# Altium footprint library fuse.PcbLib: 36 footprints (part 2 of 3)
Each footprint in its own frame and in the unit in brackets; x right, y up, seen from the top. Pads: shape width x height; smd on the part's side, far side on the other; paste and mask are expansions set on the pad; w line width, h text height; cw(c..) or ccw(c..) is an arc to the next point about the centre after c.
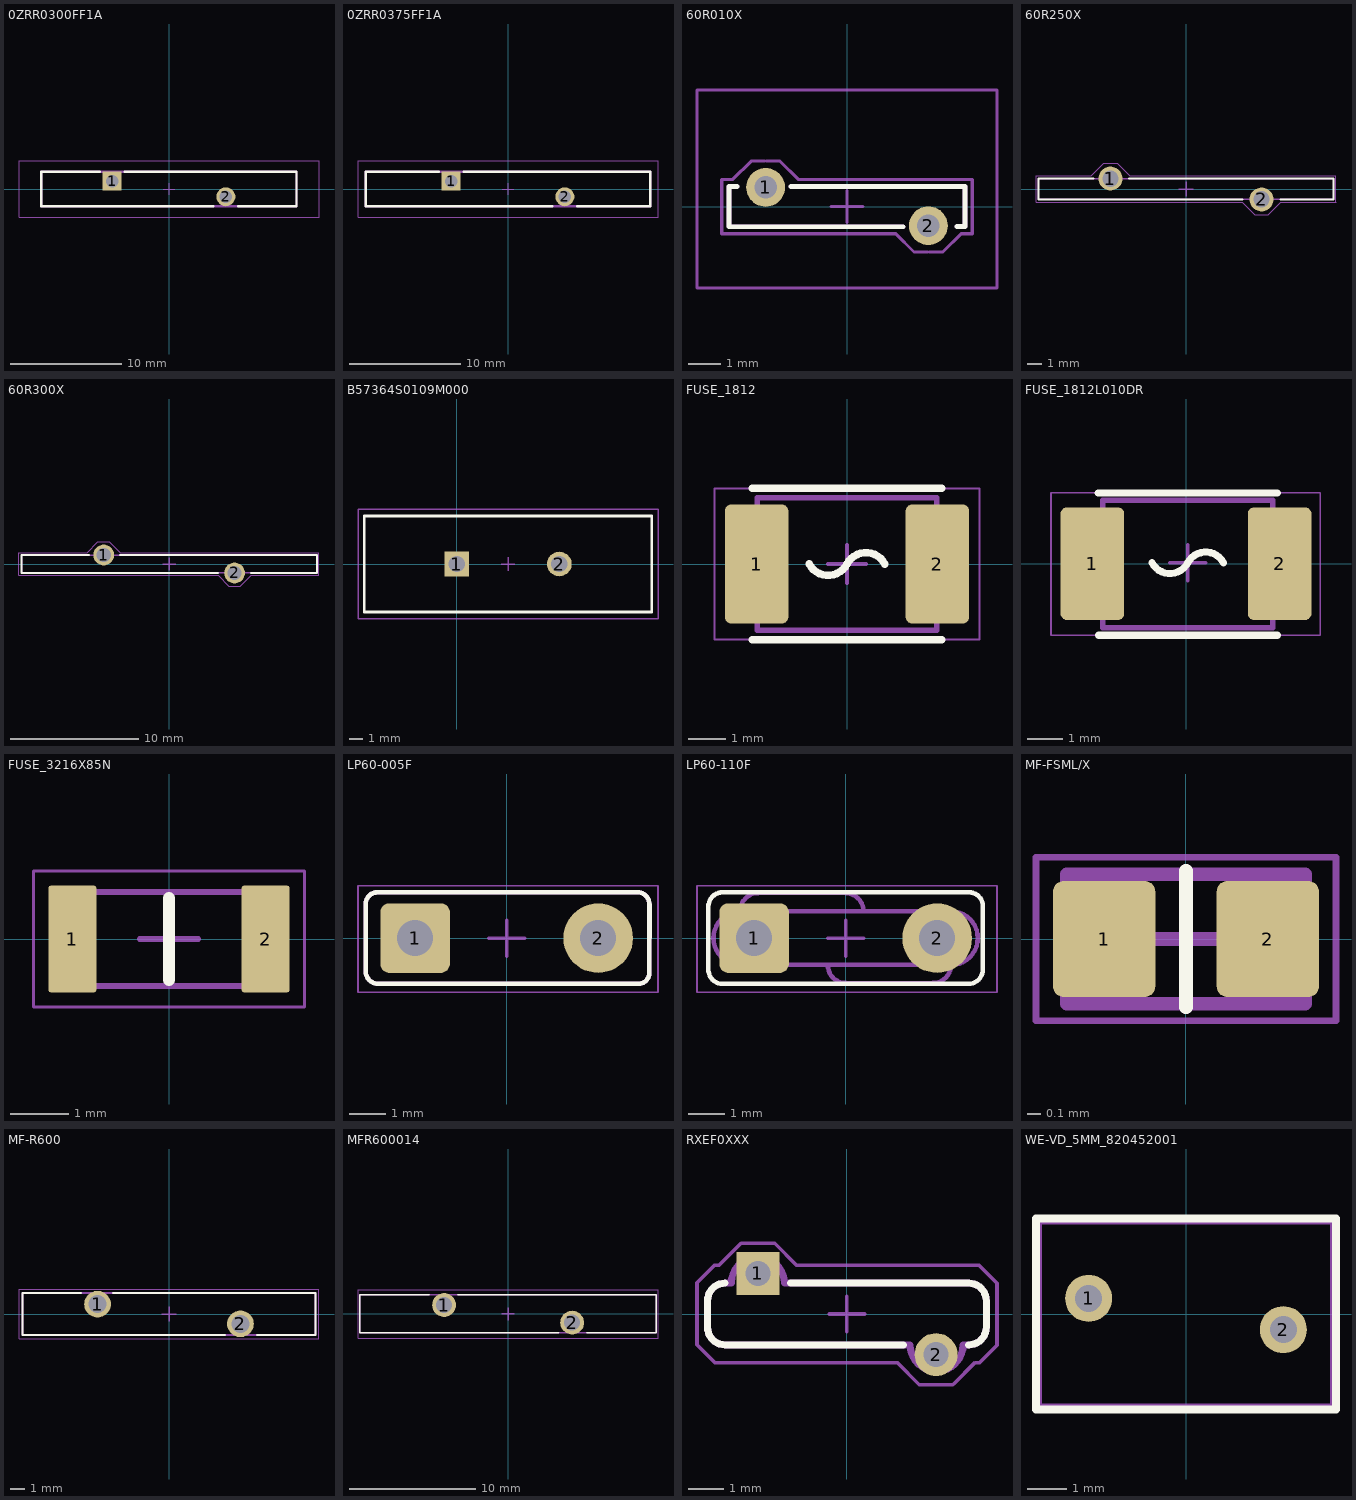
[diagram p1: the footprints below, top view; thin cyan lines are the x and y axes]

## 0ZRR0300FF1A [mm] "OZRR0300FF1A Ф24.9 h30.0 w3.1 c/f10.2 1.4 Ф0.81 mm"
pads (2):
  rect 1.7x1.7 hole 1.1: 1(-5.1,0.7)
  round 1.7 hole 1.1: 2(5.1,-0.7)
Top Overlay:
  lines w0.2: -6.2,1.55 -11.45,1.55 -11.45,-1.55 4,-1.55 ; -4,1.55 11.425,1.55 11.425,-1.55 6.2,-1.55
Top Designator:
  text ".Designator" at -3.199,1.975 h0.6
Top Assembly:
  lines w0.2: -11.45,-1.55 -11.45,1.55 -4,1.55 11.425,1.55 11.425,-1.55 4,-1.55 -11.45,-1.55
Top Courtyard:
  lines w0.1: -0.5,0 0.5,0 ; 0,-0.5 0,0.5 ; -11.45,-1.55 -11.45,1.55 11.4,1.55 11.4,-1.55 -11.45,-1.55
Mechanical 20:
  lines w0.1: -13.45,-2.55 -13.45,2.55 13.45,2.55 13.45,-2.55 -13.45,-2.55
3D body "0ZRR0300FF1A.stp": height 24.25, standoff -6.35, extent -11.275,-1.36 11.225,1.36

## 0ZRR0375FF1A [mm] "OZRR0375FF1A Ф28.5 h33.5 w3.1 c/f10.2 1.4 Ф0.81 mm"
pads (2):
  rect 1.7x1.7 hole 1.1: 1(-5.1,0.7)
  round 1.7 hole 1.1: 2(5.1,-0.7)
Top Overlay:
  lines w0.2: -6.2,1.55 -12.75,1.55 -12.75,-1.55 4,-1.55 ; -4,1.55 12.75,1.55 12.75,-1.55 6.2,-1.55
Top Designator:
  text ".Designator" at -3.199,1.975 h0.6
Top Assembly:
  lines w0.2: -12.75,-1.55 -12.75,1.55 -4,1.55 12.775,1.55 12.775,-1.55 4,-1.55 -12.75,-1.55
Top Courtyard:
  lines w0.1: -0.5,0 0.5,0 ; 0,-0.5 0,0.5 ; -12.775,-1.55 12.725,-1.55 12.725,1.55 -12.775,1.55 -12.775,-1.55
Mechanical 20:
  lines w0.1: -13.45,-2.55 13.45,-2.55 13.45,2.55 -13.45,2.55 -13.45,-2.55
3D body "0ZRR0375FF1A.stp": height 27.55, standoff -6.75, extent -12.55,-1.285 12.55,1.335

## 60R010X [mm]
height 12.7
pads (2):
  round 1.217 hole 0.71: 1(-2.55,0.6) 2(2.55,-0.6)
Top Overlay:
  lines w0.15: -3.45,0.625 -3.7,0.625 -3.7,-0.63 1.762,-0.63 ; -1.762,0.63 3.7,0.63 3.7,-0.625 3.45,-0.625
Top Designator:
  text ".Designator" at -3.124,1.8 h0.6
Top Assembly:
  lines w0.15: -3.45,0.625 -3.7,0.625 -3.7,-0.63 1.762,-0.63 ; -1.762,0.63 3.7,0.63 3.7,-0.625 3.45,-0.625
Top Courtyard:
  lines w0.1: -3.925,-0.852 1.525,-0.852 ; -3.925,-0.85 -3.925,0.85 -3.575,0.85 -3,1.425 -2.575,1.425 ; -2.525,1.425 -2.1,1.425 -1.525,0.85 ; -1.525,0.852 3.925,0.852 ; -0.5,0 0.5,0 ; 0,-0.5 0,0.5 ; 1.525,-0.85 2.1,-1.425 2.525,-1.425 ; 2.575,-1.425 3,-1.425 3.575,-0.85 3.925,-0.85 ; 3.925,0.85 3.925,-0.85 ; 3.925,-0.85 3.925,-0.85
Mechanical 20:
  lines w0.1: -4.7,-2.55 -4.7,3.65 4.7,3.65 4.7,-2.55 -4.7,-2.55
3D body "60R010XU.stp": height 13.2, standoff -7.1, extent -3.7,-1.55 3.7,1.55

## 60R250X [mm]
height 26.3
pads (2):
  round 1.62 hole 1.1: 1(-5.1,0.7) 2(5.1,-0.7)
Top Overlay:
  lines w0.15: -6.25,0.7 -9.965,0.7 -9.965,-0.7 3.817,-0.7 ; -3.825,0.7 9.965,0.7 9.965,-0.7 ; 6.373,-0.7 9.95,-0.7
Top Designator:
  text ".Designator" at -3.249,1.6 h0.6
Top Assembly:
  lines w0.1: -9.965,0.7 -9.965,-0.7 4.4,-0.7 ; -9.95,0.7 -5.8,0.7 ; -4.4,0.7 9.965,0.7 9.965,-0.7 ; 5.8,-0.7 9.95,-0.7
Top Courtyard:
  lines w0.05: -10.125,-0.888 -10.125,0.888 -6.387,0.888 -5.55,1.725 -4.65,1.725 -3.813,0.888 10.124,0.888 10.124,-0.888 6.387,-0.888 5.55,-1.725 4.65,-1.725 3.813,-0.888 -10.125,-0.888
  lines w0.1: -0.5,0 0.5,0 ; 0,-0.5 0,0.5
Top 3D Body:
  lines w0.1: -5.8,0.7 cw(c-5.1,0.7) -4.4,0.7 ; 4.4,-0.7 ccw(c5.1,-0.7) 5.8,-0.7 cw(c5.1,-0.7) 4.4,-0.7
3D body "60R250XF.stp": height 25.96, standoff -7.72, extent -9.965,-1.299 9.965,1.3

## 60R300X [mm]
height 29.3
pads (2):
  round 1.62 hole 1.1: 1(-5.1,0.7) 2(5.1,-0.7)
Top Overlay:
  lines w0.15: -6.25,0.7 -11.5,0.7 -11.5,-0.7 3.817,-0.7 ; -3.825,0.7 11.512,0.7 11.512,-0.7 6.373,-0.7
Top Designator:
  text ".Designator" at -3.249,1.75 h0.6
Top Assembly:
  lines w0.1: -5.8,0.7 -11.5,0.7 -11.5,-0.7 4.4,-0.7 ; -4.4,0.7 11.5,0.7 11.5,-0.7 5.8,-0.7
Top Courtyard:
  lines w0.05: -11.7,-0.888 3.813,-0.888 4.65,-1.725 5.55,-1.725 6.387,-0.888 11.675,-0.888 11.675,0.888 -3.813,0.888 -4.65,1.725 -5.55,1.725 -6.387,0.888 -11.7,0.888 -11.7,-0.888
  lines w0.1: -0.5,0 0.5,0 ; 0,-0.5 0,0.5
Top 3D Body:
  lines w0.1: -5.8,0.7 cw(c-5.1,0.7) -4.4,0.7 ; 4.4,-0.7 ccw(c5.1,-0.7) 5.8,-0.7 cw(c5.1,-0.7) 4.4,-0.7
3D body "60R300XF.stp": height 29.55, standoff -21.55, extent -11.555,-1.55 11.555,1.55

## B57364S0109M000 [mm]
pads (2):
  rect 1.8x1.8 hole 1.2: 1(0,0)
  round 1.8 hole 1.2: 2(7.5,0)
Top Overlay:
  lines w0.2: -6.75,-3.5 14.25,-3.5 14.25,3.5 -6.75,3.5 -6.75,-3.5
Top Designator:
  text ".Designator" at 0.551,4.425 h0.6
Top Assembly:
  lines w0.1: -6.75,-3.5 14.25,-3.5 14.25,3.5 -6.75,3.5 -6.75,-3.5
Top Courtyard:
  lines w0.1: 3.25,0 4.25,0 ; 3.75,-0.5 3.75,0.5 ; -7.2,-4 14.7,-4 14.7,4 -7.2,4 -7.2,-4
3D body "B57364S0109M000.stp": height 27.24, standoff -23.94, extent -6.5,-3.5 14,3.5

## FUSE_1812 [mm]
height 1.5
pads (2):
  rrect20% 1.68x3.15 smd: 1(-2.39,0) 2(2.39,0)
Top Overlay:
  lines w0.2: -2.5,-2 2.5,-2 ; -2.5,2 2.5,2 ; -1,0 ccw(c-0.5,0.267) 0,0 cw(c0.5,-0.267) 1,0
Top Designator:
  text ".Designator" at -2.924,2.55 h0.6
Top Assembly:
  lines w0.15: -1,0 ccw(c-0.5,0.267) 0,0 cw(c0.5,-0.267) 1,0 ; -2.375,-1.75 2.375,-1.75 2.375,1.75 -2.375,1.75 -2.375,-1.75
Top Courtyard:
  lines w0.05: -3.5,-2 -3.5,2 3.5,2 3.5,-2 -3.5,-2
  lines w0.1: -0.5,0 0.5,0 -0.5,0 ; 0,-0.5 0,0.5 0,-0.5
3D body "Fuse 1812.step": height 1.04, standoff 0.01, extent -2.365,-1.74 2.37,1.74

## FUSE_1812L010DR [mm]
pads (2):
  rrect20% 1.78x3.15 smd: 1(-2.615,0) 2(2.615,0)
Top Overlay:
  lines w0.2: -2.45,1.975 2.55,1.975 ; -2.444,-1.999 2.556,-1.999 ; -0.95,0.025 ccw(c-0.45,0.292) 0.05,0.025 cw(c0.55,-0.242) 1.05,0.025
Top Designator:
  text ".Designator" at -2.975,2.541 h0.6
Top Assembly:
  lines w0.15: -0.95,0.025 ccw(c-0.45,0.292) 0.05,0.025 cw(c0.55,-0.242) 1.05,0.025 ; -2.325,-1.788 -2.325,1.775 2.425,1.775 2.425,-1.788 -2.325,-1.788
Top Courtyard:
  lines w0.05: -3.775,-2.001 3.75,-2.001 3.75,1.985 -3.775,1.985 -3.775,-2.001
  lines w0.1: -0.45,0.025 0.55,0.025 -0.45,0.025 ; 0.05,-0.475 0.05,0.525 0.05,-0.475
3D body "1812L020_60DR.stp": height 1.25, standoff 0, extent -2.225,-1.6 2.325,1.65

## FUSE_3216X85N [mm]
pads (2):
  rrect10% 0.82x1.82 smd: 1(-1.65,0) 2(1.65,0)
Top Overlay:
  lines w0.2: 0,-0.7 0,0.7
Top Designator:
  text ".Designator" at -3.049,1.6 h0.6
Top Assembly:
  lines w0.1: -1.6,-0.8 1.6,-0.8 1.6,0.8 -1.6,0.8 -1.6,-0.8
Top Courtyard:
  lines w0.05: -2.31,-1.16 2.31,-1.16 2.31,1.16 -2.31,1.16 -2.31,-1.16
  lines w0.1: -0.5,0 0.5,0 ; 0,-0.5 0,0.5
3D body "MF-NSMF050-2.stp": height 0.85, standoff 0, extent -1.6,-0.8 1.6,0.8

## LP60-005F [mil] "PTC Resettable Fuse, Through Hole Mount, RADIAL LEADED"
pads (2):
  rrect25% 76x76 hole 39.37: 1(-100,0)
  round 76 hole 39.37: 2(100,0)
Top Overlay:
  lines w5: 143.82,-50 ccw(c143.82,-37.91) 155.91,-37.91 156.07,36.72 ccw(c142.59,36.72) 142.59,50.2 -141.34,50 ccw(c-141.34,37.4) -153.94,37.4 -153.94,-36.24 ccw(c-140.17,-36.24) -140.17,-50 144.69,-50
Top Designator:
  text ".Designator" at -118.07,74.81 h23.62
Top Assembly:
  lines w5: 143.82,-50 ccw(c143.82,-37.91) 155.91,-37.91 156.07,36.72 ccw(c142.59,36.72) 142.59,50.2 -141.34,50 ccw(c-141.34,37.4) -153.94,37.4 -153.94,-36.24 ccw(c-140.17,-36.24) -140.17,-50 144.68,-50
Top Courtyard:
  lines w1.97: -162.4,-59.06 -162.4,57.09 165.35,57.09 165.35,-59.06 -162.4,-59.06
  lines w3.94: -19.68,0 19.68,0 ; 0,-19.68 0,19.68
3D body "7.9mm Resettable PTC Radial.step": height 142.24, standoff -482.2, extent -154.51,-49.22 156.51,49.21

## LP60-110F [mil] "PTC Resettable Fuse, Through Hole Mount, RADIAL LEADED"
pads (2):
  rrect25% 76x76 hole 39.37: 1(-100,0)
  round 76 hole 39.37: 2(100,0)
Top Overlay:
  lines w5: -150,-34.55 ccw(c-134.55,-34.55) -134.55,-50 133.95,-50 ccw(c133.95,-33.95) 150,-33.95 150,34.83 ccw(c134.83,34.83) 134.83,50 -134.55,50 ccw(c-134.55,34.55) -150,34.55 -150,-34.55
Top Designator:
  text ".Designator" at -118.07,74.81 h23.62
Top Assembly:
  lines w5: -115.16,29.53 cw(c-95.47,29.53) -95.47,49.21 ; -115.09,-29.33 115.09,-29.33 ; -115.09,-29.31 cw(c-115.09,0.01) -144.41,0.01 cw(c-115.09,0.01) -115.09,29.33 115.09,29.33 ; -95.47,49.32 0,49.18 ; -19.49,-29.53 ccw(c0,-29.53) 0,-49.02 ; 0,-49.18 95.4,-49.32 ; 0,49.02 cw(c0,29.53) 19.49,29.53 ; 95.4,-49.02 ccw(c95.4,-29.33) 115.09,-29.33 ; 115.09,29.31 cw(c115.09,-0.01) 144.41,-0.01 cw(c115.09,-0.01) 115.09,-29.33
Top Courtyard:
  lines w1.97: -162.4,-59.06 -162.4,57.09 165.35,57.09 165.35,-59.06 -162.4,-59.06
  lines w3.94: -19.68,0 19.68,0 ; 0,-19.68 0,19.68
3D body "7.9mm Resettable PTC Radial.step": height 142.24, standoff -482.2, extent -154.51,-49.22 156.51,49.21

## MF-FSML/X [mm] "MF-FSML/X Series, Resettable Fuse, PPTC, 0603 (1608 Metric)"
height 0.45
pads (2):
  rrect20% 0.75x0.85 smd: 1(-0.6,0) 2(0.6,0)
Top Overlay:
  lines w0.1: 0,-0.5 0,0.5
Top Designator:
  text ".Designator" at -2.774,1.05 h0.6
Top Assembly:
  lines w0.1: -0.875,-0.475 -0.875,0.475 0.875,0.475 0.875,-0.475 -0.875,-0.475
Top Courtyard:
  lines w0.05: -1.1,-0.6 -1.1,0.6 1.1,0.6 1.1,-0.6 -1.1,-0.6
  lines w0.1: -0.5,0 0.5,0 ; 0,-0.5 0,0.5
3D body "User Library-ptc06032-1.STEP": height 0.75, standoff 0, extent -0.8,-0.375 0.8,0.375

## MF-R600 [mm]
pads (2):
  round 1.894 hole 1.263: 1(-5.075,0.7) 2(5.075,-0.7)
Top Overlay:
  lines w0.127: -6.25,1.5 -10.4,1.5 -10.4,-1.5 4,-1.5 ; -4,1.5 10.4,1.5 10.4,-1.5 6.25,-1.5
Top Designator:
  text ".Designator" at -3.099,2.225 h0.6
Top Assembly:
  lines w0.127: -10.4,-1.5 10.4,-1.5 10.4,1.5 -10.4,1.5 -10.4,-1.5
Top Courtyard:
  lines w0.05: -10.65,-1.75 10.65,-1.75 10.65,1.75 -10.65,1.75 -10.65,-1.75
  lines w0.1: -0.5,0 0.5,0 ; 0,-0.5 0,0.5
3D body "RXEF250K-2.STEP": height 26.4, standoff -6.6, extent -10.4,-1.5 10.4,1.5

## MFR600014 [mm]
pads (2):
  round 1.894 hole 1.263: 1(-5.075,0.7) 2(5.075,-0.7)
Top Overlay:
  lines w0.127: -6.25,1.5 -11.75,1.5 -11.75,-1.5 4,-1.5 ; -4,1.5 11.725,1.5 11.725,-1.5 6.25,-1.5
Top Designator:
  text ".Designator" at -3.099,2.225 h0.6
Top Assembly:
  lines w0.127: -11.75,-1.5 11.725,-1.5 11.725,1.5 -11.75,1.5 -11.75,-1.5
Top Courtyard:
  lines w0.05: -11.9,-1.925 11.875,-1.925 11.875,1.9 -11.9,1.9 -11.9,-1.925
  lines w0.1: -0.5,0 0.5,0 ; 0,-0.5 0,0.5
3D body "mf-rht1300-2.stp": height 31.75, standoff -4.55, extent -11.755,-1.8 11.745,1.8

## RXEF0XXX [mm]
pads (2):
  rect 1.217x1.217 hole 0.71: 1(-2.525,1.15)
  round 1.217 hole 0.71: 2(2.525,-1.15)
Top Overlay:
  lines w0.2: -3.45,0.875 ccw(c-3.45,0.375) -3.95,0.375 -3.95,-0.375 ccw(c-3.45,-0.375) -3.45,-0.875 1.6,-0.875 ; -1.6,0.875 3.45,0.875 cw(c3.45,0.375) 3.95,0.375 3.95,-0.375 cw(c3.45,-0.375) 3.45,-0.875
Top Designator:
  text ".Designator" at -1.299,2.05 h0.6
Top Assembly:
  lines w0.2: 3.291,-0.875 cw(c2.541,-0.875) 1.791,-0.875 -3.45,-0.875 cw(c-3.45,-0.375) -3.95,-0.375 -3.95,0.375 cw(c-3.45,0.375) -3.45,0.875 -3.275,0.875 cw(c-2.525,0.875) -1.775,0.875 3.45,0.875 cw(c3.45,0.375) 3.95,0.375 3.95,-0.375 cw(c3.45,-0.375) 3.45,-0.875 ; 3.3,-0.875 3.475,-0.875
Top Courtyard:
  lines w0.1: -3.017,1.986 -3.629,1.375 -3.759,1.375 -4.249,0.885 -4.249,-0.876 -3.75,-1.375 1.421,-1.375 2.046,-2 3,-2 ; -3,2 -2.046,2 -1.421,1.375 3.75,1.375 4.251,0.874 4.251,-0.499 4.251,-0.885 3.761,-1.375 3.629,-1.375 3.017,-1.986 ; -0.5,0 0.5,0 ; 0,-0.5 0,0.5
3D body "RXEF050-2.stp": height 8.21, standoff -12.31, extent -3.955,-1.431 3.945,1.442

## WE-VD_5MM_820452001 [mm]
pads (2):
  round 1.208 hole 0.7 mask+0.102: 1(-2.5,0.4) 2(2.5,-0.4)
Top Overlay:
  lines w0.2: -3.85,-2.45 -3.85,2.45 3.85,2.45 3.85,-2.45 -3.85,-2.45
Top Assembly:
  lines w0.1: -3.75,-2.35 -3.75,2.35 3.75,2.35 3.75,-2.35 -3.75,-2.35
3D body "Download_STP_WE-VD_820453001+%28rev1%29.stp": height 8.5, standoff -22.5, extent -3,-1.775 3,1.725